# Altium schematic symbol library IAUZ20N08S5L300.Schlib: 1 symbol
Pins are listed as number, name and electrical type; pins without a type are passive.

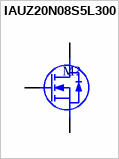
[diagram p0: symbol IAUZ20N08S5L300]

## IAUZ20N08S5L300
designator M?
80V 20A N-Channel
pins: 1 S, 2 G, 3 D